# EAGLE library part 4CH-MIXER-2164 (library XM8)
Xonik 4 channel voltage controlled exponential mixer with external input
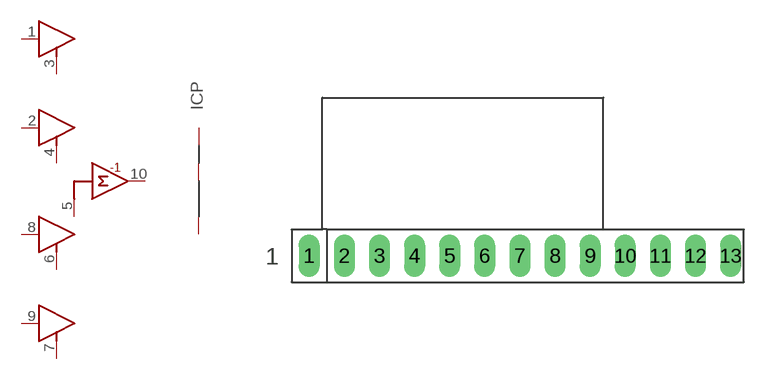
[diagram p9: symbol with the pads of XM8-4CH-MIXER-2164-V; footprint XM8-4CH-MIXER-2164-V]

Designator prefix IC; gates G$1=XM8-MIXER-INPUT G$2=XM8-MIXER-INPUT G$3=XM8-MIXER-INPUT G$4=XM8-MIXER-INPUT G$5=XM8-MIXER-OUTPUT P=XM8-PWR

## 4CH-MIXER-2164V  [XM8-4CH-MIXER-2164-V]
1  G$1:I
2  G$2:I
3  G$1:C
4  G$2:C
5  G$5:E
6  G$3:C
7  G$4:C
8  G$3:I
9  G$4:I
10  G$5:O
11  P:-V  pwr
12  P:+V  pwr
13  P:AGND  pwr

## Footprint XM8-4CH-MIXER-2164-V (pad centres in mm)
Xonik 4 channel mixer (2164), vertical mount
drill 1.016 long: 1 -15.24,0; 2 -12.7,0; 3 -10.16,0; 4 -7.62,0; 5 -5.08,0; 6 -2.54,0; 7 0,0; 8 2.54,0; 9 5.08,0; 10 7.62,0; 11 10.16,0; 12 12.7,0; 13 15.24,0